# EAGLE library part AP7344 (library Ilya_Teach)
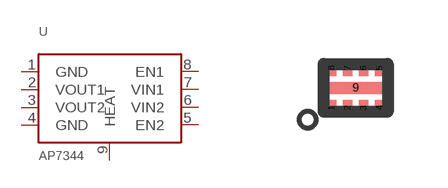
[diagram p13: symbol with the pads of X2-DFN1612-8; footprint X2-DFN1612-8]

Designator prefix -

## AP7344  [X2-DFN1612-8]
1  GND
2  VOUT1
3  VOUT2
4  GND
5  EN2
6  VIN2
7  VIN1
8  EN1
9  HEAT

## Footprint X2-DFN1612-8 (pad centres in mm)
smd 0.23 x 0.4: 1 -0.6,-0.5; 2 -0.2,-0.5; 3 0.2,-0.5; 4 0.6,-0.5; 5 0.6,0.5; 6 0.2,0.5; 7 -0.2,0.5; 8 -0.6,0.5
smd 1.3 x 0.3: 9 0,0